# Altium schematic symbol library FM28V020-TG.Schlib: 1 symbol
Pins are listed as number, name and electrical type; pins without a type are passive.

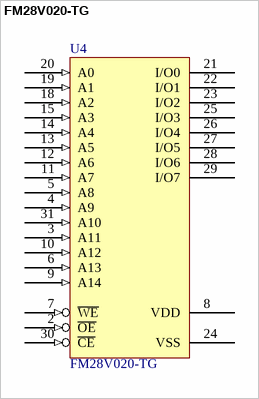
[diagram p0: symbol FM28V020-TG]

## FM28V020-TG
designator U4
256Kbit Bytewide Low Vltage FRAM Memory; Назначение: FRAM-память; Наименование: FM28V020-TG
footprint TSOP32
pins: 2 ~{OE} (in), 3 A11 (in), 4 A9 (in), 5 A8 (in), 6 A13 (in), 7 ~{WE} (in), 8 VDD (power), 9 A14 (in), 10 A12 (in), 11 A7 (in), 12 A6 (in), 13 A5 (in), 14 A4 (in), 15 A3 (in), 18 A2 (in), 19 A1 (in), 20 A0 (in), 21 I/O0 (hiz), 22 I/O1 (hiz), 23 I/O2 (hiz), 24 VSS (power), 25 I/O3 (hiz), 26 I/O4 (hiz), 27 I/O5 (hiz), 28 I/O6 (hiz), 29 I/O7 (hiz), 30 ~{CE} (in), 31 A10 (in)